# EAGLE library part XR22800IL (library misc)
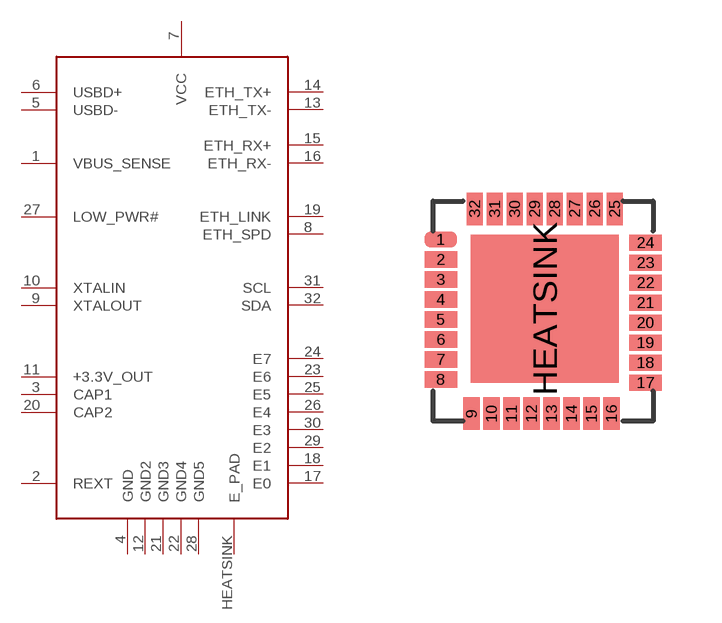
[diagram p0: symbol with the pads of QFN32; footprint QFN32]

Designator prefix -

## XR22800IL  [QFN32]
1  VBUS_SENSE
2  REXT
3  CAP1
4  GND
5  USBD-
6  USBD+
7  VCC
8  ETH_SPD
9  XTALOUT
10  XTALIN
11  +3.3V_OUT
12  GND2
13  ETH_TX-
14  ETH_TX+
15  ETH_RX+
16  ETH_RX-
17  E0
18  E1
19  ETH_LINK
20  CAP2
21  GND3
22  GND4
23  E6
24  E7
25  E5
26  E4
27  LOW_PWR#
28  GND5
29  E2
30  E3
31  SCL
32  SDA
HEATSINK  E_PAD

## Footprint QFN32 (pad centres in mm)
smd 0.813 x 0.406: 1 -2.56,1.79; 2 -2.56,1.29; 3 -2.56,0.79; 4 -2.56,0.29; 5 -2.56,-0.21; 6 -2.56,-0.71; 7 -2.56,-1.21; 8 -2.56,-1.71; 17 2.56,-1.79; 18 2.56,-1.29; 19 2.56,-0.79; 20 2.56,-0.29; 21 2.56,0.21; 22 2.56,0.71; 23 2.56,1.21; 24 2.56,1.71
smd 0.406 x 0.813: 9 -1.79,-2.56; 10 -1.29,-2.56; 11 -0.79,-2.56; 12 -0.29,-2.56; 13 0.21,-2.56; 14 0.71,-2.56; 15 1.21,-2.56; 16 1.71,-2.56; 25 1.79,2.56; 26 1.29,2.56; 27 0.79,2.56; 28 0.29,2.56; 29 -0.21,2.56; 30 -0.71,2.56; 31 -1.21,2.56; 32 -1.71,2.56
smd 3.7 x 3.7: HEATSINK 0.04,0.06